# Altium schematic symbol library 光电隔离器.SchLib: 9 symbols
Pins are listed as number, name and electrical type; pins without a type are passive.

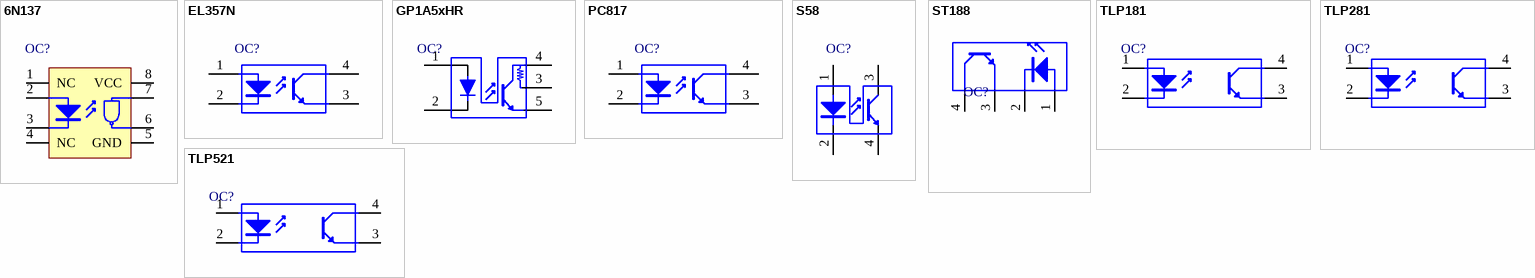
[diagram p0: symbols 6N137 to TLP521]

## 6N137
designator OC?
10M高速集成光耦
footprint SMD_6N137
pins: 1 NC "Anode", 2 LED+ "Cathode", 3 LED- "Cathode", 4 NC "Cathode", 5 GND "Collector", 6 Vo "Emitter", 7 Ve "Emitter", 8 VCC "Emitter"

## EL357N
designator OC?
线性光耦
footprint SMD_EL357N
pins: 1 A "Anode", 2 K "Cathode", 3 E "Emitter", 4 C "Collector"

## GP1A5xHR
designator OC?
槽间光电开关
footprint GP1A52HR (长: 12.5mm,宽:5mm,高:10mm,槽宽:3mm)
footprint GP1A53HR (长: 14mm,宽:5.2mm,高:10mm,槽宽:5mm)
pins: 1 A, 2 K, 3, 4, 5

## PC817
designator OC?
线性光耦
footprint SMD_PC817
footprint DIP_PC817
pins: 1 A "Anode", 2 K "Cathode", 3 E "Emitter", 4 C "Collector"

## S58
designator OC?
槽间光耦
footprint S58 (对射型光耦)
pins: 1 A, 2 K, 3 C, 4 E

## ST188
designator OC?
反射型光耦
footprint ST188 (反射型光耦)
pins: 1 A "Anode", 2 K "Cathode", 3 E "Emitter", 4 C "Collector"

## TLP181
designator OC?
光耦
footprint Model Name (Model Description)
pins: 1 A "Anode", 2 K "Cathode", 3 E "Emitter", 4 C "Collector"

## TLP281
designator OC?
光耦
pins: 1 A "Anode", 2 K "Cathode", 3 E "Emitter", 4 C "Collector"

## TLP521
designator OC?
开关光耦
footprint DIP_TLP521
pins: 1 A "Anode", 2 K "Cathode", 3 E "Emitter", 4 C "Collector"